# Altium footprint library TEP_243-Altium_Library.PcbLib: 103 footprints (part 5 of 7)
Each footprint in its own frame and in the unit in brackets; x right, y up, seen from the top. Pads: shape width x height; smd on the part's side, far side on the other; paste and mask are expansions set on the pad; w line width, h text height; cw(c..) or ccw(c..) is an arc to the next point about the centre after c.
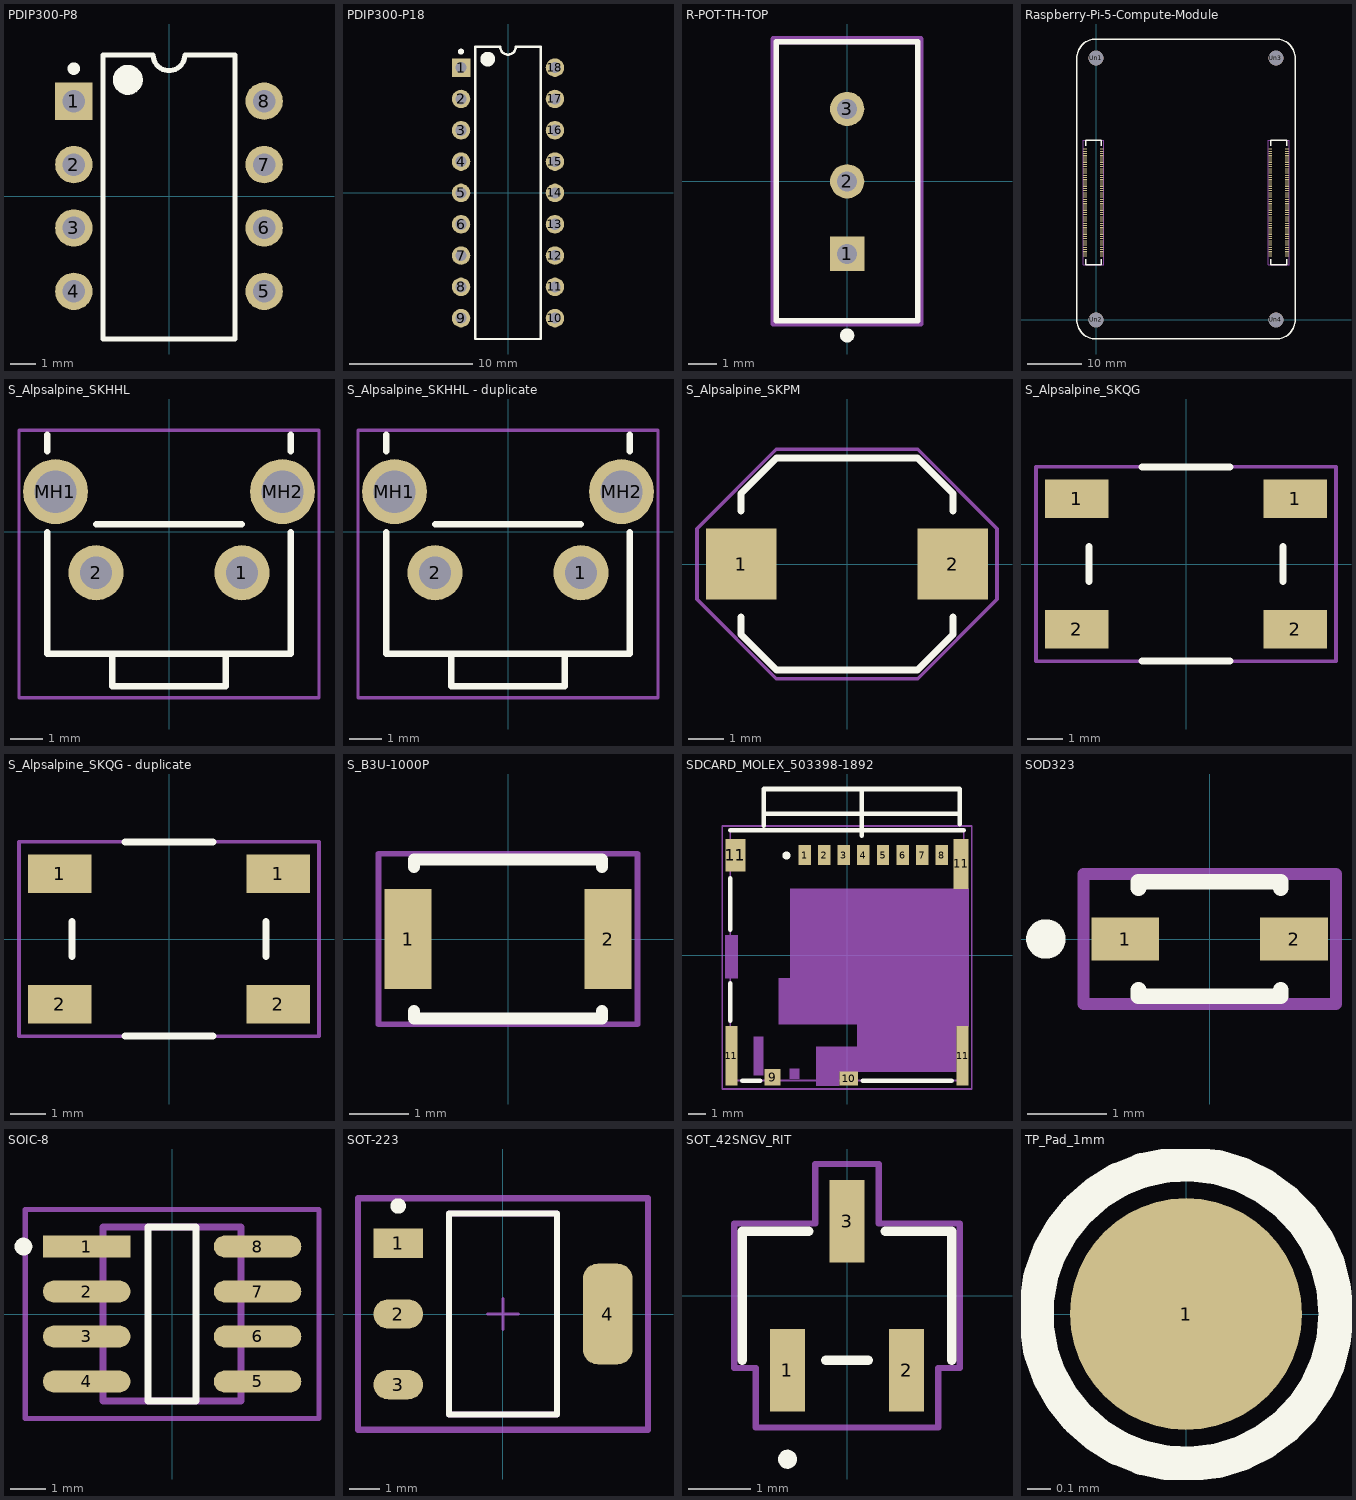
[diagram p4: the footprints below, top view; thin cyan lines are the x and y axes]

## PDIP300-P8 [mm] "8-Pin Plastic Dual In-Line Package (PDIP)"
height 5.34
pads (8):
  rect 1.5x1.5 hole 0.9: 1(-3.81,3.81)
  round 1.5 hole 0.9: 2(-3.81,1.27) 3(-3.81,-1.27) 4(-3.81,-3.81) 5(3.81,-3.81) 6(3.81,-1.27) 7(3.81,1.27) 8(3.81,3.81)
Top Overlay:
  circle w0.25: c-3.81,5.11 r0.125
  circle w0.6: c-1.65,4.662 r0.3
  lines w0.2: -2.65,-5.715 2.65,-5.715 2.65,5.662 0.635,5.662 cw(c0,5.662) -0.635,5.662 -2.65,5.662 -2.65,-5.715
Top Designator:
  text ".Designator" at -1.27,-0.255 h1
3D body "CircuitWorks-DIP8.STEP": height 4.19, standoff -2.67, extent -3.937,-5.715 3.937,5.715

## PDIP300-P18 [mm] "DIP, 18-Pin, Row Spacing 7.62 mm, Pitch 2.54 mm"
height 5.34
pads (18):
  rect 1.5x1.5 hole 0.9: 1(-3.81,10.16)
  round 1.5 hole 0.9: 2(-3.81,7.62) 3(-3.81,5.08) 4(-3.81,2.54) 5(-3.81,0) 6(-3.81,-2.54) 7(-3.81,-5.08) 8(-3.81,-7.62) 9(-3.81,-10.16) 10(3.81,-10.16) 11(3.81,-7.62) 12(3.81,-5.08) 13(3.81,-2.54) 14(3.81,0) 15(3.81,2.54) 16(3.81,5.08) 17(3.81,7.62) 18(3.81,10.16)
Top Overlay:
  circle w0.25: c-3.81,11.46 r0.125
  circle w0.6: c-1.65,10.85 r0.3
  lines w0.2: -2.65,-11.85 -2.65,11.85 -0.635,11.85 ccw(c0,11.85) 0.635,11.85 2.65,11.85 2.65,-11.85 -2.65,-11.85
Top Designator:
  text ".Designator" at -1.016,-0.255 h1
3D body "User Library-DIP-18P-M02.STEP": height 5, standoff -3, extent -4.06,-11 3.81,11

## R-POT-TH-TOP [mm]
pads (3):
  rect 1.2x1.2 hole 0.7 paste-2539.97 mask+0: 1(0.005,-2.54)
  round 1.2 hole 0.7 paste-2539.97 mask+0: 2(0.005,0) 3(0.005,2.54)
Top Overlay:
  circle w0.25: c0.005,-5.4 r0.125
  lines w0.2: -2.48,-4.89 -2.48,4.89 2.48,4.89 2.48,-4.89 -2.48,-4.89
Top Component Center:
  lines w0.1: -0.5,0 0.5,0 ; 0,-0.5 0,0.5
Top Courtyard:
  lines w0.15: -2.58,-4.99 -2.58,4.99 2.58,4.99 2.58,-4.99 -2.58,-4.99
Top Designator:
  text ".Designator" at 0,-0.001 h1
Top 3D Body:
  lines w0.2: -2.48,-4.89 -2.48,4.89 2.48,4.89 2.48,-4.89 -2.48,-4.89
Top Component Outline:
  lines w0.2: -2.58,-4.99 -2.58,4.99 2.58,4.99 2.58,-4.99 -2.58,-4.99
3D body "Res_Bourns_3296W-1-501RLF_eec.STEP": height 0.25, standoff 0, extent -2.58,-4.99 2.58,4.99

## Raspberry-Pi-5-Compute-Module [mm]
height 2.65
pads (204):
  rect 0.7x0.2 smd mask+0: 1(-2.04,31.3) 2(1.04,31.3) 3(-2.04,30.9) 4(1.04,30.9) 5(-2.04,30.5) 6(1.04,30.5) 7(-2.04,30.1) 8(1.04,30.1) 9(-2.04,29.7) 10(1.04,29.7) 11(-2.04,29.3) 12(1.04,29.3) 13(-2.04,28.9) 14(1.04,28.9) 15(-2.04,28.5) 16(1.04,28.5) 17(-2.04,28.1) 18(1.04,28.1) 19(-2.04,27.7) 20(1.04,27.7) 21(-2.04,27.3) 22(1.04,27.3) 23(-2.04,26.9) 24(1.04,26.9) 25(-2.04,26.5) 26(1.04,26.5) 27(-2.04,26.1) 28(1.04,26.1) 29(-2.04,25.7) 30(1.04,25.7) 31(-2.04,25.3) 32(1.04,25.3) 33(-2.04,24.9) 34(1.04,24.9) 35(-2.04,24.5) 36(1.04,24.5) 37(-2.04,24.1) 38(1.04,24.1) 39(-2.04,23.7) 40(1.04,23.7) 41(-2.04,23.3) 42(1.04,23.3) 43(-2.04,22.9) 44(1.04,22.9) 45(-2.04,22.5) 46(1.04,22.5) 47(-2.04,22.1) 48(1.04,22.1) 49(-2.04,21.7) 50(1.04,21.7) 51(-2.04,21.3) 52(1.04,21.3) 53(-2.04,20.9) 54(1.04,20.9) 55(-2.04,20.5) 56(1.04,20.5) 57(-2.04,20.1) 58(1.04,20.1) 59(-2.04,19.7) 60(1.04,19.7) 61(-2.04,19.3) 62(1.04,19.3) 63(-2.04,18.9) 64(1.04,18.9) 65(-2.04,18.5) 66(1.04,18.5) 67(-2.04,18.1) 68(1.04,18.1) 69(-2.04,17.7) 70(1.04,17.7) 71(-2.04,17.3) 72(1.04,17.3) 73(-2.04,16.9) 74(1.04,16.9) 75(-2.04,16.5) 76(1.04,16.5) 77(-2.04,16.1) 78(1.04,16.1) 79(-2.04,15.7) 80(1.04,15.7) 81(-2.04,15.3) 82(1.04,15.3) 83(-2.04,14.9) 84(1.04,14.9) 85(-2.04,14.5) 86(1.04,14.5) 87(-2.04,14.1) 88(1.04,14.1) 89(-2.04,13.7) 90(1.04,13.7) 91(-2.04,13.3) 92(1.04,13.3) 93(-2.04,12.9) 94(1.04,12.9) 95(-2.04,12.5) 96(1.04,12.5) 97(-2.04,12.1) 98(1.04,12.1) 99(-2.04,11.7) 100(1.04,11.7) 101(31.96,31.3) 102(35.04,31.3) 103(31.96,30.9) 104(35.04,30.9) 105(31.96,30.5) 106(35.04,30.5) 107(31.96,30.1) 108(35.04,30.1) 109(31.96,29.7) 110(35.04,29.7) 111(31.96,29.3) 112(35.04,29.3) 113(31.96,28.9) 114(35.04,28.9) 115(31.96,28.5) 116(35.04,28.5) 117(31.96,28.1) 118(35.04,28.1) 119(31.96,27.7) 120(35.04,27.7) 121(31.96,27.3) 122(35.04,27.3) 123(31.96,26.9) 124(35.04,26.9) 125(31.96,26.5) 126(35.04,26.5) 127(31.96,26.1) 128(35.04,26.1) 129(31.96,25.7) 130(35.04,25.7) 131(31.96,25.3) 132(35.04,25.3) 133(31.96,24.9) 134(35.04,24.9) 135(31.96,24.5) 136(35.04,24.5) 137(31.96,24.1) 138(35.04,24.1) 139(31.96,23.7) 140(35.04,23.7) 141(31.96,23.3) 142(35.04,23.3) 143(31.96,22.9) 144(35.04,22.9) 145(31.96,22.5) 146(35.04,22.5) 147(31.96,22.1) 148(35.04,22.1) 149(31.96,21.7) 150(35.04,21.7) 151(31.96,21.3) 152(35.04,21.3) 153(31.96,20.9) 154(35.04,20.9) 155(31.96,20.5) 156(35.04,20.5) 157(31.96,20.1) 158(35.04,20.1) 159(31.96,19.7) 160(35.04,19.7) 161(31.96,19.3) 162(35.04,19.3) 163(31.96,18.9) 164(35.04,18.9) 165(31.96,18.5) 166(35.04,18.5) 167(31.96,18.1) 168(35.04,18.1) 169(31.96,17.7) 170(35.04,17.7) 171(31.96,17.3) 172(35.04,17.3) 173(31.96,16.9) 174(35.04,16.9) 175(31.96,16.5) 176(35.04,16.5) 177(31.96,16.1) 178(35.04,16.1) 179(31.96,15.7) 180(35.04,15.7) 181(31.96,15.3) 182(35.04,15.3) 183(31.96,14.9) 184(35.04,14.9) 185(31.96,14.5) 186(35.04,14.5) 187(31.96,14.1) 188(35.04,14.1) 189(31.96,13.7) 190(35.04,13.7) 191(31.96,13.3) 192(35.04,13.3) 193(31.96,12.9) 194(35.04,12.9) 195(31.96,12.5) 196(35.04,12.5) 197(31.96,12.1) 198(35.04,12.1) 199(31.96,11.7) 200(35.04,11.7)
  round 2.7 hole 2.7 paste-2539.97 mask+1.7: Un1(0,48) Un2(0,0) Un3(33,48) Un4(33,0)
Top Overlay:
  lines w0.254: -1.86,11.1 -1.86,10.1 0.94,10.1 0.94,11.1 ; -1.86,31.9 -1.86,32.9 0.94,32.9 0.94,31.9 ; 32.06,11.1 32.06,10.1 34.94,10.1 34.94,11.1 ; 32.06,31.9 32.06,32.9 34.94,32.9 34.94,31.9 ; -3.5,0 ccw(c0,0) 0,-3.5 33,-3.5 ccw(c33,0) 36.5,0 36.5,48 ccw(c33,48) 33,51.5 0,51.5 ccw(c0,48) -3.5,48 -3.5,0
Top Courtyard:
  lines w0.1: -2.31,10.1 1.39,10.1 1.39,32.9 -2.31,32.9 -2.31,10.1 ; 31.61,10.1 31.61,32.9 35.39,32.9 35.39,10.1 31.61,10.1
3D body "CM5R5-3dsteps.step": height 6.51, standoff 1.89, extent -3.5,-3.5 36.5,51.5

## S_Alpsalpine_SKHHL [mm]
pads (4):
  round 1.7 hole 1 paste-2539.97 mask+0: 1(2.25,-1.27) 2(-2.25,-1.27)
  round 2 hole 1.3 paste-2539.97 mask+0: MH1(-3.5,1.23) MH2(3.5,1.23)
Top Overlay:
  lines w0.2: -3.75,-0.02 -3.75,-3.77 3.75,-3.77 3.75,-0.02 ; -3.75,2.48 -3.75,2.98 ; -2.25,0.23 2.25,0.23 ; -1.75,-3.77 -1.75,-4.77 1.75,-4.77 1.75,-3.77 ; 3.75,2.48 3.75,2.98
Top Courtyard:
  lines w0.1: -4.625,-5.125 4.625,-5.125 4.625,3.125 -4.625,3.125 -4.625,-5.125
Top Designator:
  text ".Designator" at -2.489,-0.212 h1.5
3D body "skhhlna010.step": height 7.4, standoff -3.5, extent -4.25,-4.975 4.25,2.925

## S_Alpsalpine_SKHHL - duplicate [mm]
height 2.65
pads (4):
  round 1.7 hole 1 paste-2539.97 mask+0: 1(2.25,-1.27) 2(-2.25,-1.27)
  round 2 hole 1.3 paste-2539.97 mask+0: MH1(-3.5,1.23) MH2(3.5,1.23)
Top Overlay:
  lines w0.2: -3.75,-0.02 -3.75,-3.77 3.75,-3.77 3.75,-0.02 ; -3.75,2.48 -3.75,2.98 ; -2.25,0.23 2.25,0.23 ; -1.75,-3.77 -1.75,-4.77 1.75,-4.77 1.75,-3.77 ; 3.75,2.48 3.75,2.98
Top Courtyard:
  lines w0.1: -4.625,-5.125 4.625,-5.125 4.625,3.125 -4.625,3.125 -4.625,-5.125
Top Designator:
  text ".Designator" at -2.235,-0.212 h1.5
3D body "skhhlna010.step": height 7.4, standoff -3.5, extent -4.25,-4.975 4.25,2.925

## S_Alpsalpine_SKPM [mm]
pads (2):
  rect 2x2 smd mask+0: 1(-3,0) 2(3,0)
Top Overlay:
  lines w0.2: -3,-1.5 -3,-2 -2,-3 2,-3 3,-2 3,-1.5 ; -3,1.5 -3,2 -2,3 2,3 3,2 3,1.5
Top Courtyard:
  lines w0.1: -4.25,-1 -4.25,0 -4.25,1 -2,3.25 2,3.25 4.25,1 4.25,-1 2,-3.25 -2,-3.25 -4.25,-1
Top Designator:
  text ".Designator" at -2.489,-0.212 h1.5
3D body "skpmbhe010.step": height 5, standoff 0, extent -3.3,-2.97 3.3,2.97

## S_Alpsalpine_SKQG [mm]
height 2.65
pads (4):
  rect 1.8x1.1 smd mask+0: 1(-3.1,1.85) 1(3.1,1.85) 2(-3.1,-1.85) 2(3.1,-1.85)
Top Overlay:
  lines w0.2: -2.75,-0.5 -2.75,0.5 ; -1.25,-2.75 1.25,-2.75 ; -1.25,2.75 1.25,2.75 ; 2.75,-0.5 2.75,0.5
Top Courtyard:
  lines w0.1: -4.25,-2.75 4.25,-2.75 4.25,2.75 -4.25,2.75 -4.25,-2.75
Top Designator:
  text ".Designator" at -2.489,-0.212 h1.5
3D body "SKQGAF.STEP": height 1.5, standoff 0, extent -3.2,-2.6 3.2,2.6

## S_Alpsalpine_SKQG - duplicate [mm]
height 2.65
pads (4):
  rect 1.8x1.1 smd mask+0: 1(-3.1,1.85) 1(3.1,1.85) 2(-3.1,-1.85) 2(3.1,-1.85)
Top Overlay:
  lines w0.2: -2.75,-0.5 -2.75,0.5 ; -1.25,-2.75 1.25,-2.75 ; -1.25,2.75 1.25,2.75 ; 2.75,-0.5 2.75,0.5
Top Courtyard:
  lines w0.1: -4.25,-2.75 -4.25,2.75 4.25,2.75 4.25,-2.75 -4.25,-2.75
Top Designator:
  text ".Designator" at -2.489,-0.212 h1.5
3D body "SKQGAF.STEP": height 1.5, standoff 0, extent -3.2,-2.6 3.2,2.6

## S_B3U-1000P [mm]
pads (2):
  rect 0.8x1.7 smd paste+0 mask+0: 1(-1.7,0) 2(1.7,0)
Top Overlay:
  lines w0.2: -1.6,-1.225 -1.6,-1.35 1.6,-1.35 1.6,-1.225 ; -1.6,1.225 -1.6,1.35 1.6,1.35 1.6,1.225
Top Courtyard:
  lines w0.1: -2.2,-1.45 2.2,-1.45 2.2,1.45 -2.2,1.45 -2.2,-1.45
Top Designator:
  text ".Designator" at -1.25,-0.062 h1
3D body "Switch_Omron_B3U-1000P_eec.STEP": height 1.6, standoff 0, extent -2,-1.256 2,1.244

## SDCARD_MOLEX_503398-1892 [mm]
height 2.65
pads (14):
  rect 0.7x1.1 smd: 1(-2.38,5.625) 2(-1.28,5.625) 3(-0.18,5.625) 4(0.92,5.625) 5(2.02,5.625) 6(3.12,5.625) 7(4.22,5.625) 8(5.32,5.625)
  rect 0.9x0.93 smd: 9(-4.17,-6.84)
  rect 1.05x0.78 smd: 10(0.095,-6.915)
  rect 0.7x3.33 smd: 11(-6.48,-5.64) 11(6.48,-5.64)
  rect 1.14x1.83 smd: 11(-6.26,5.61)
  rect 0.86x2.8 smd: 11(6.4,5.125)
Top Overlay:
  circle w0.254: c-3.4,5.6 r0.1
  lines w0.254: -6.55,-3.675 -6.55,-1.575 ; -6.55,1.425 -6.55,4.325 ; -6.55,7.025 6.55,7.025 ; -5.876,-7.025 -4.874,-7.025 ; -4.67,7.28 -4.67,9.33 6.33,9.33 6.33,7.35 ; -4.67,7.93 6.33,7.93 ; 0.83,6.7 0.83,9.33 ; 0.874,-7.025 5.876,-7.025
Top Courtyard:
  circle w0.254: c-2.38,5.775 r0.1
  region: -2.67,-6.93 -3.223,-6.93 -3.223,-6.375 -2.67,-6.375
  region: -4.685,-6.73 -5.239,-6.73 -5.239,-4.575 -4.685,-4.575
  region: -6.13,-1.276 -6.836,-1.276 -6.836,1.125 -6.13,1.125
  region: 6.83,-3.975 6.13,-3.975 6.13,-6.525 -0.43,-6.525 -0.43,-7.305 -1.73,-7.305 -1.73,-5.125 0.57,-5.125 0.57,-3.875 -3.82,-3.875 -3.82,-1.275 -3.17,-1.275 -3.17,3.725 6.83,3.725
  region: -6.13,-1.277 -6.842,-1.277 -6.842,1.125 -6.13,1.125
  region: -4.685,-6.738 -5.245,-6.738 -5.245,-4.575 -4.685,-4.575
  region: -2.67,-6.937 -3.225,-6.937 -3.225,-6.375 -2.67,-6.375
  region: 6.83,-3.975 6.13,-3.975 6.13,-6.525 -0.43,-6.525 -0.43,-7.305 -1.73,-7.305 -1.73,-5.125 0.57,-5.125 0.57,-3.875 -3.82,-3.875 -3.82,-1.275 -3.17,-1.275 -3.17,3.725 6.83,3.725
  lines w0.1: -7,-7.5 7,-7.5 7,7.25 -7,7.25 -7,-7.5 ; -6.55,-7.025 -6.55,7.025 6.55,7.025 6.55,-7.025 -6.55,-7.025
Top Designator:
  text ".Designator" at -3.124,-0.212 h1.5
3D body "5033981892.stp": height 1.28, standoff 0, extent -6.477,-7.025 6.623,7.025

## SOD323 [mm]
height 1
pads (2):
  rect 0.86x0.54 smd paste+0 mask+0: 1(-1.07,0) 2(1.07,0)
Top Overlay:
  circle w0.25: c-2.075,0 r0.125
  lines w0.2: -0.9,-0.645 -0.9,-0.725 0.9,-0.725 0.9,-0.645 ; -0.9,0.645 -0.9,0.725 0.9,0.725 0.9,0.645
Top Courtyard:
  lines w0.15: -1.6,-0.825 1.6,-0.825 1.6,0.825 -1.6,0.825 -1.6,-0.825
Top Designator:
  text ".Designator" at 0,0.188 h1
3D body "Diode_STMicroelectronics_BAT60JFILM_eec.STEP": height 0.25, standoff 0, extent -1.6,-0.825 1.6,0.825

## SOIC-8 [mm]
height 5
pads (8):
  rect 2.469x0.622 smd paste+0 mask+0: 1(-2.414,1.905)
  rrect100% 2.469x0.622 smd paste+0 mask+0: 2(-2.414,0.635) 3(-2.414,-0.635) 4(-2.414,-1.905) 5(2.414,-1.905) 6(2.414,-0.635) 7(2.414,0.635) 8(2.414,1.905)
Top Overlay:
  circle w0.25: c-4.198,1.905 r0.125
  lines w0.2: -0.679,-2.452 -0.679,2.452 0.679,2.452 0.679,-2.452 -0.679,-2.452
Top Courtyard:
  lines w0.15: -4.148,-2.953 -4.148,2.953 4.148,2.953 4.148,-2.953 -4.148,-2.953
Top Designator:
  text ".Designator" at 0,0.188 h1
Top Component Outline:
  lines w0.2: -1.947,-2.452 1.947,-2.452 1.947,2.452 -1.947,2.452 -1.947,-2.452
3D body "IC_Texas_Instruments_ISO7220ADR_eec.STEP": height 0.25, standoff 0, extent -4.148,-2.953 4.148,2.953

## SOT-223 [mm]
height 1
pads (4):
  rect 1.604x0.952 smd paste+0 mask+0: 1(-3.395,2.29)
  rrect100% 1.604x0.952 smd paste+0 mask+0: 2(-3.395,0) 3(-3.395,-2.29)
  rrect59% 1.604x3.262 smd paste+0 mask+0: 4(3.395,0)
Top Overlay:
  circle w0.25: c-3.395,3.5 r0.125
  lines w0.2: -1.753,-3.253 -1.753,3.253 1.753,3.253 1.753,-3.253 -1.753,-3.253
Top Component Center:
  lines w0.1: -0.5,0 0.5,0 ; 0,-0.5 0,0.5
Top Courtyard:
  lines w0.2: -4.697,-3.752 -4.697,3.752 4.697,3.752 4.697,-3.752 -4.697,-3.752
Top Assembly:
  lines w0.2: -4.697,-3.752 4.697,-3.752 4.697,3.752 -4.697,3.752 -4.697,-3.752
Top Designator:
  text ".Designator" at 0,0.188 h1
Top 3D Body:
  lines w0.2: -1.753,-3.253 -1.753,3.253 1.753,3.253 1.753,-3.253 -1.753,-3.253
3D body "IC_Advanced_Monolithic_Systems_AMS1117-3_3_eec.STEP": height 0.25, standoff 0, extent -4.697,-3.752 4.697,3.752

## SOT_42SNGV_RIT [mil]
pads (3):
  rect 22x52 smd paste+0 mask+0: 1(-37.5,-47) 2(37.5,-47) 3(0,47)
Top Overlay:
  circle w6: c-37.5,-103 r3
  lines w6: -66,-40.5 -66,40.5 -24.1,40.5 ; -13.4,-40.5 13.4,-40.5 ; 24.1,40.5 66,40.5 66,-40.5
Top Courtyard:
  lines w3.94: -71,-45.5 -57.5,-45.5 -57.5,-83 57.5,-83 57.5,-45.5 71,-45.5 71,45.5 20,45.5 20,83 -20,83 -20,45.5 -71,45.5 -71,-45.5
Top Designator:
  text ".Designator" at -58.67,-8.9 h39.37
Top 3D Body:
  circle w0: c-37.5,-25.5 r3
3D body "SOT_42SNGV_RIT.step": height 51.1, standoff 0, extent -60.98,-59.02 60.98,59.02

## TP_Pad_1mm [mm]
pads (1):
  round 1 smd paste-1 mask+0: 1(0,0)
Top Overlay:
  circle w0.15: c0,0 r0.648